# EAGLE library part 11328-T060 (library 11328-T060)
Power Transformers Flyback Transformer for LT8316, 600VIN, -40C to 125C, PQ2620: size 31 x 28.5 x 23.5 (H) mm max. PIN type Source: Datasheet <https://www.mouser.in/datasheet/2/390/LT8316_PQ2620_Datasheet_ver_3_20190825-2199694.pdf>
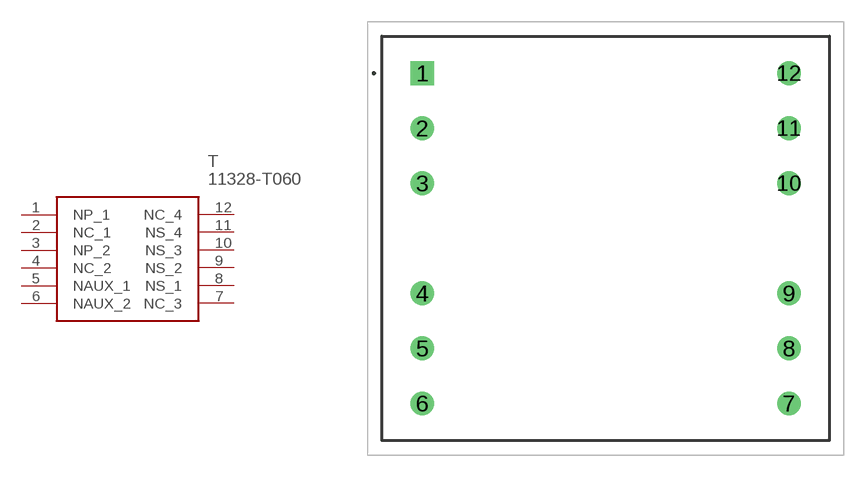
[diagram p0: symbol with the pads of 11328T060; footprint 11328T060]

Designator prefix T

## 11328-T060 (Description: Power Transformers Flyback Transformer for LT8316, 600VIN, -40C to 125C, PQ2620: size 31 x 28.5 x 23.5 (H) mm max. PIN type; Height: 23.5mm; Manufacturer_Name: Sumida; Manufacturer_Part_Number: 11328-T060; Mouser_Part_Number: 851-11328-T060; Mouser_Price-Stock: https://www.mouser.co.uk/ProductDetail/Sumida/11328-T060?qs=DRkmTr78QARgaZEAx0ESeA%3D%3D)  [11328T060]
1  NP_1
2  NC_1
3  NP_2
4  NC_2
5  NAUX_1
6  NAUX_2
7  NC_3
8  NS_1
9  NS_2
10  NS_3
11  NS_4
12  NC_4

## Footprint 11328T060 (pad centres in mm)
11328-T060-3
drill 1.1 pad 1.65 square: 1 0,0
drill 1.1 pad 1.65: 2 0,-3.81; 3 0,-7.62; 4 0,-15.24; 5 0,-19.05; 6 0,-22.86; 7 25.4,-22.86; 8 25.4,-19.05; 9 25.4,-15.24; 10 25.4,-7.62; 11 25.4,-3.81; 12 25.4,0